# Altium footprint library PCB - RESISTOR - CHIP - STACKPOLE CSR1210.PCBLIB: 1 footprints
Each footprint in its own frame and in the unit in brackets; x right, y up, seen from the top. Pads: shape width x height; smd on the part's side, far side on the other; paste and mask are expansions set on the pad; w line width, h text height; cw(c..) or ccw(c..) is an arc to the next point about the centre after c.
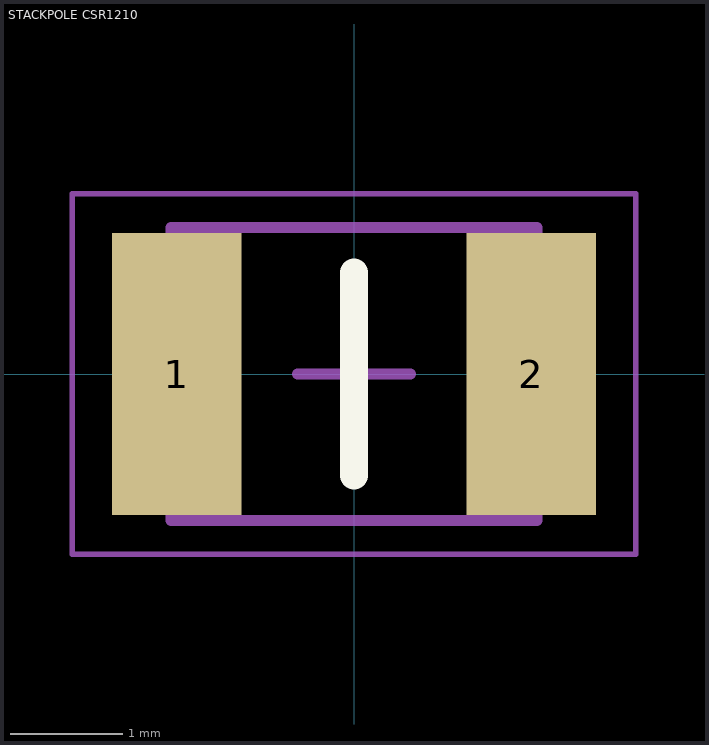
[diagram p0: the footprint, top view; thin cyan lines are the x and y axes]

## STACKPOLE CSR1210 [mm] "Chip Resistor, 2-Leads, Body 3.1x2.6mm, IPC Medium Density"
height 0.65
pads (2):
  rect 1.15x2.5 smd: 1(-1.575,0) 2(1.575,0)
Top Overlay:
  lines w0.25: 0,-0.9 0,0.9
Top Assembly:
  lines w0.1: -1.625,-1.3 -1.625,1.3 1.625,1.3 1.625,-1.3 -1.625,-1.3
  text ".Designator" at -2.25,-0.226 h1
Top Component Center:
  lines w0.1: -0.5,0 0.5,0 ; 0,-0.5 0,0.5
Top Courtyard:
  lines w0.05: -2.5,-1.6 -2.5,1.6 2.5,1.6 2.5,-1.6 -2.5,-1.6
3D body "Stackpole CSR1210 Res.STEP": height 0.55, standoff 0, extent -1.6,-1.3 1.6,1.3